# Altium integrated library SparkFun-Aesthetics.IntLib: 74 symbols
Pins are listed as number, name and electrical type; pins without a type are passive.

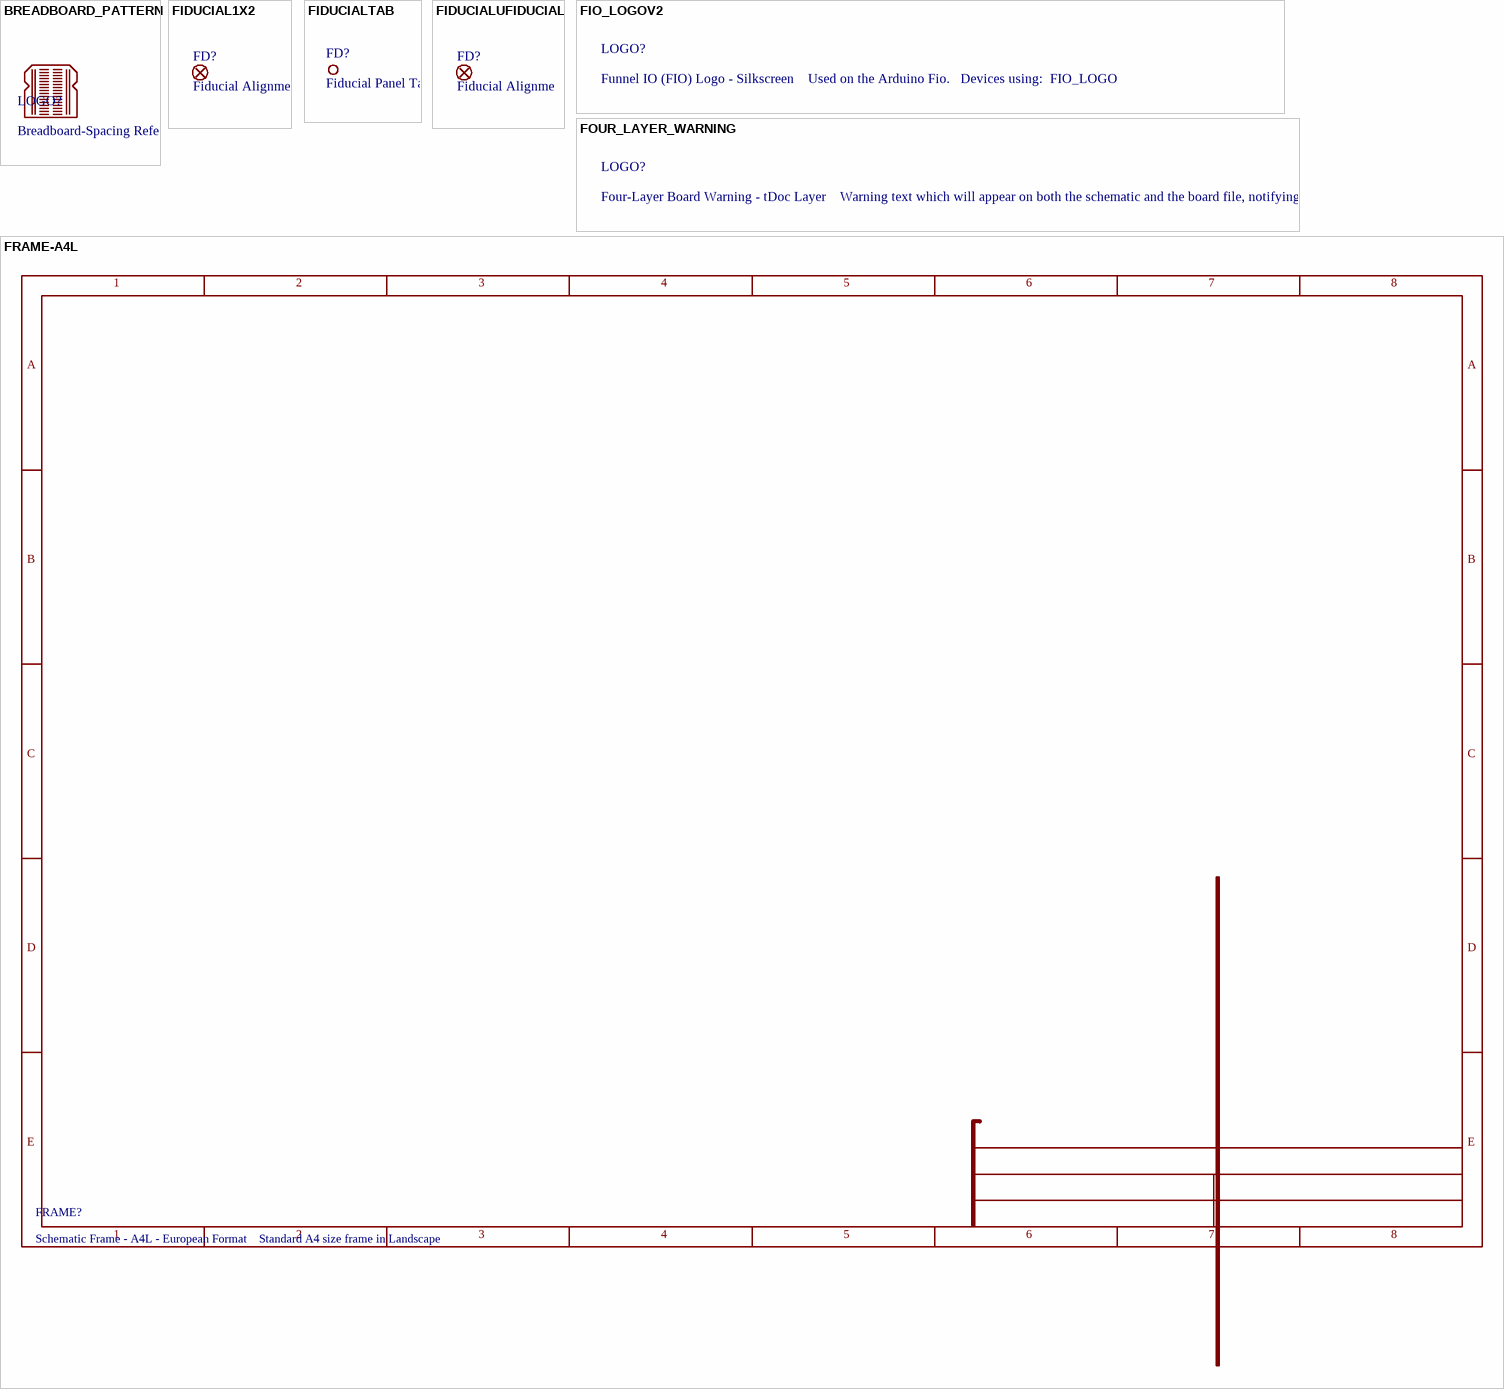
[diagram p0: symbols BREADBOARD_PATTERN to FRAME-A4L]

## BREADBOARD_PATTERN
designator LOGO?, comment Breadboard-Spacing Reference    tDoc reference markings that correspond to solderless breadboard row spacing. Includes power rails and void space between rows.
footprint BREADBOARD_SPACING

## FIDUCIAL1X2
designator FD?, comment Fiducial Alignment Points    Point-of-reference for pick-and-place machines and other optical instruments.
footprint FIDUCIAL-1X2

## FIDUCIALTAB
designator FD?, comment Fiducial Panel Tab    This is half of a tab, with fiducial reference mark, used to connect individual boards in a panel of PCBs.   Two of these half tabs, rotated in opposite directions, can be connected together to form a full tab, with two fiducial markings. Place along the edge of a panel of PCBs, this will allow for panels with boards not connected by v-scores, which allows for easier depanelization where there are overhanging components. It can also be used for designs too small to accomodate fiducial marks on individual boards.
footprint FIDUCIALTAB

## FIDUCIALUFIDUCIAL
designator FD?, comment Fiducial Alignment Points    Point-of-reference for pick-and-place machines and other optical instruments.
footprint FIDUCIAL-MICRO

## FIO_LOGOV2
designator LOGO?, comment Funnel IO (FIO) Logo - Silkscreen    Used on the Arduino Fio.   Devices using:  FIO_LOGO
footprint FIO_LOGO

## FOUR_LAYER_WARNING
designator LOGO?, comment Four-Layer Board Warning - tDoc Layer    Warning text which will appear on both the schematic and the board file, notifying viewers that the design is a four-layer PCB.
footprint FOUR_LAYER_WARNING

## FRAME-A4L
designator FRAME?, comment Schematic Frame - A4L - European Format    Standard A4 size frame in Landscape
text: 1; 2; 3; 4; 5; 6; 7; 8; A; B; C; D; E

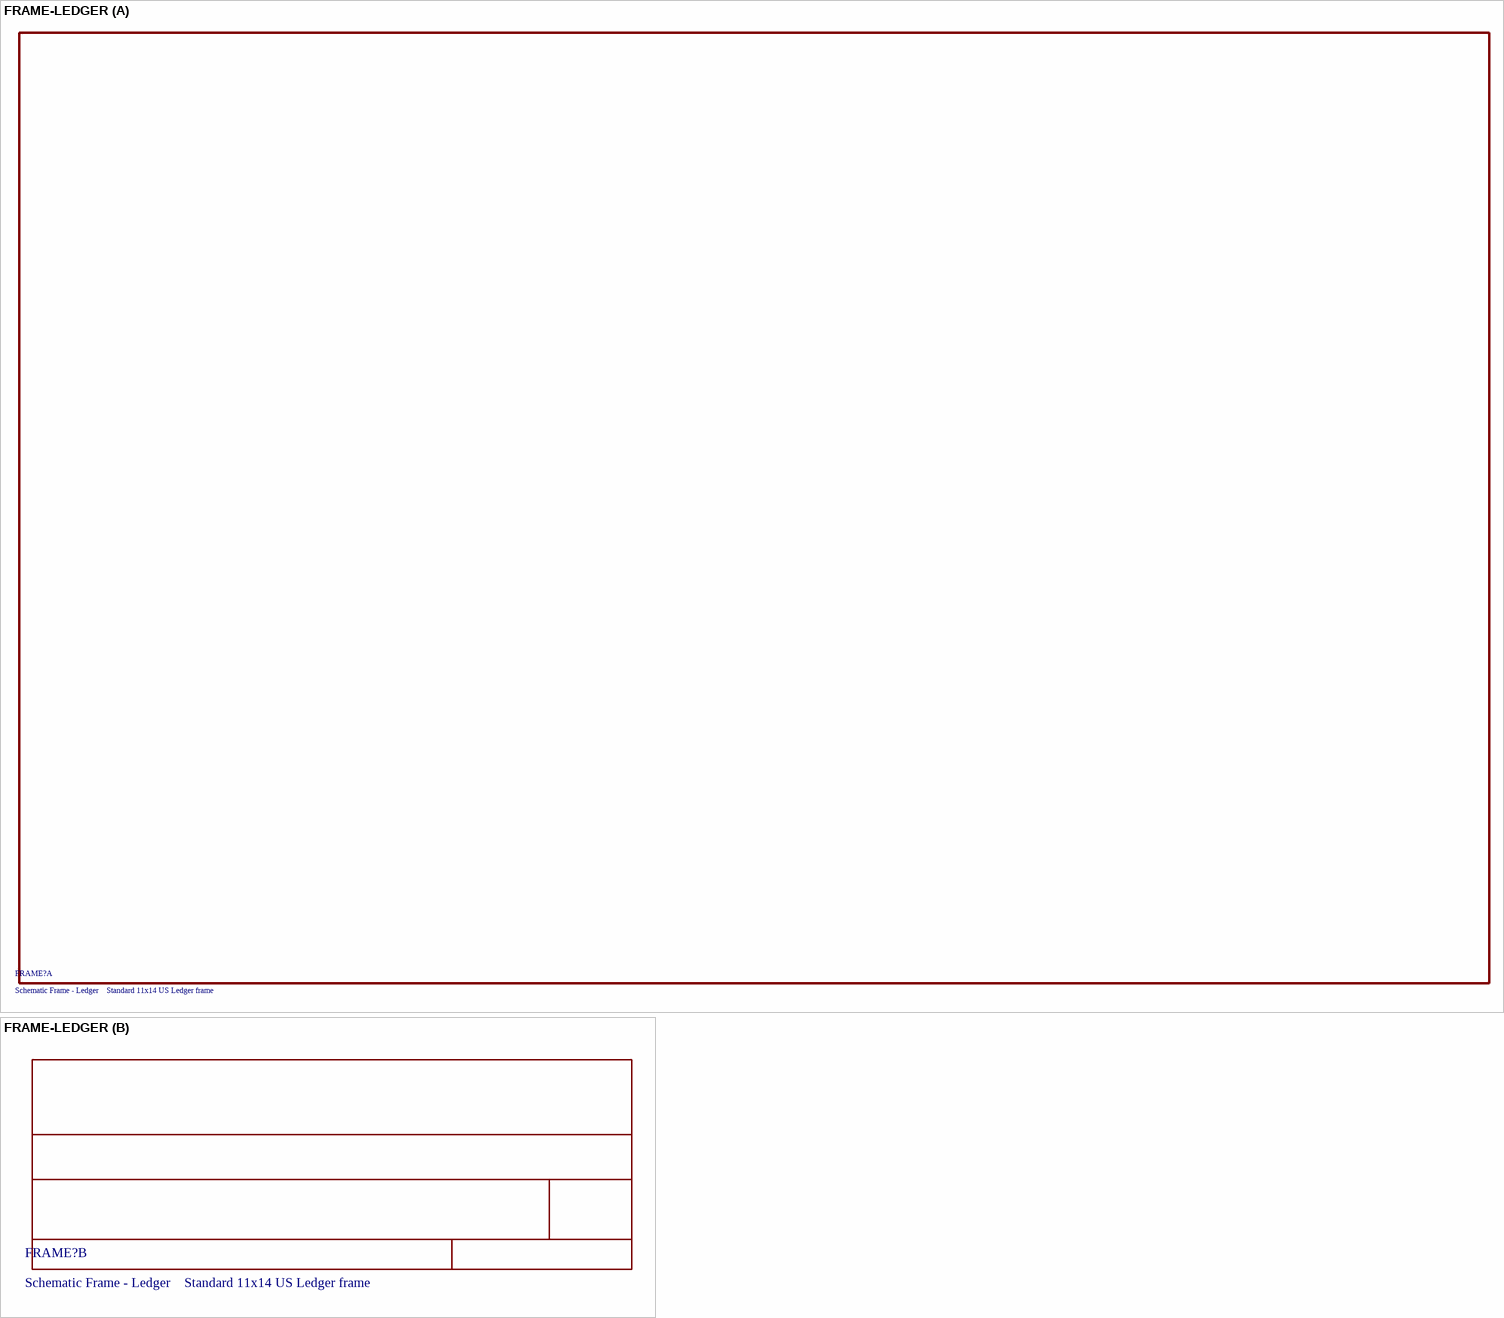
[diagram p1: symbol FRAME-LEDGER]

## FRAME-LEDGER
designator FRAME?, comment Schematic Frame - Ledger    Standard 11x14 US Ledger frame
footprint CREATIVE_COMMONS

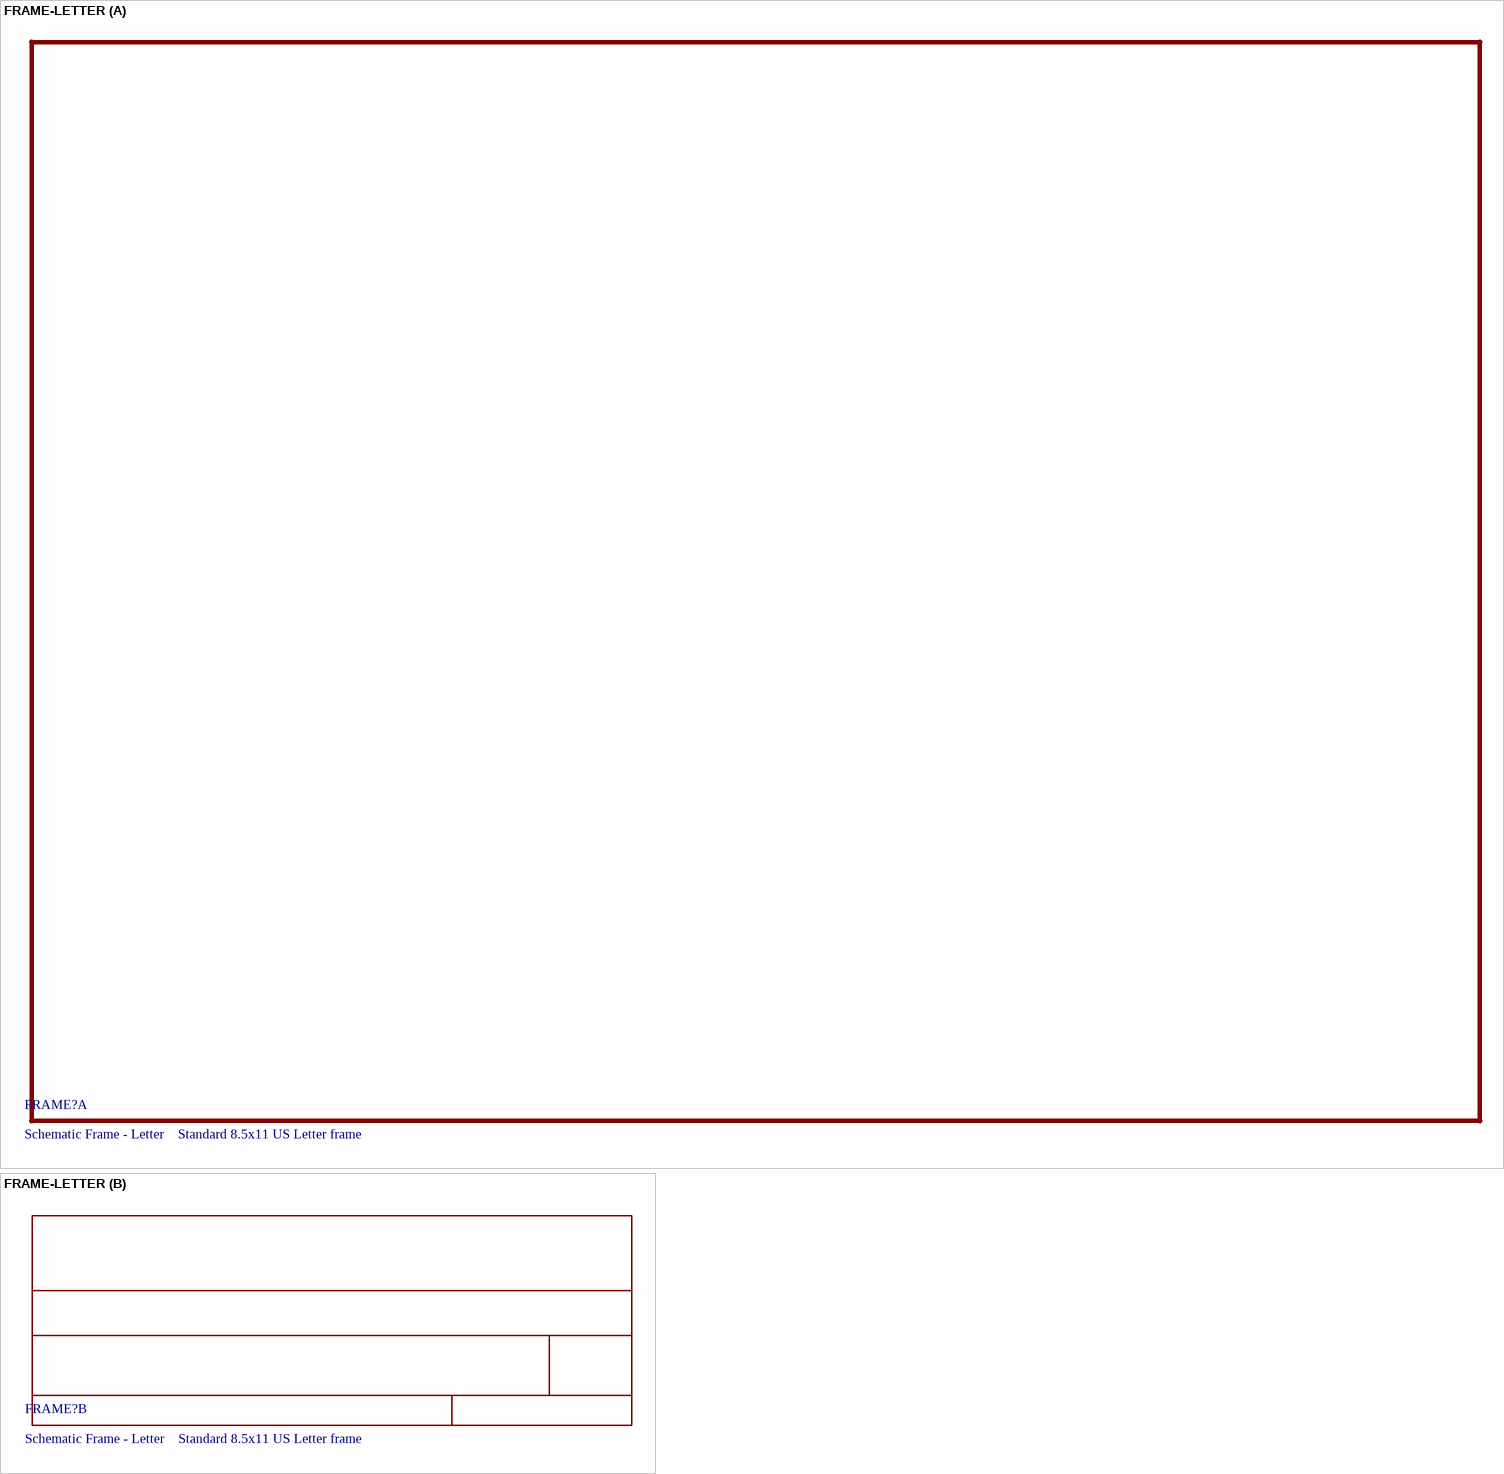
[diagram p2: symbol FRAME-LETTER]

## FRAME-LETTER
designator FRAME?, comment Schematic Frame - Letter    Standard 8.5x11 US Letter frame
footprint CREATIVE_COMMONS

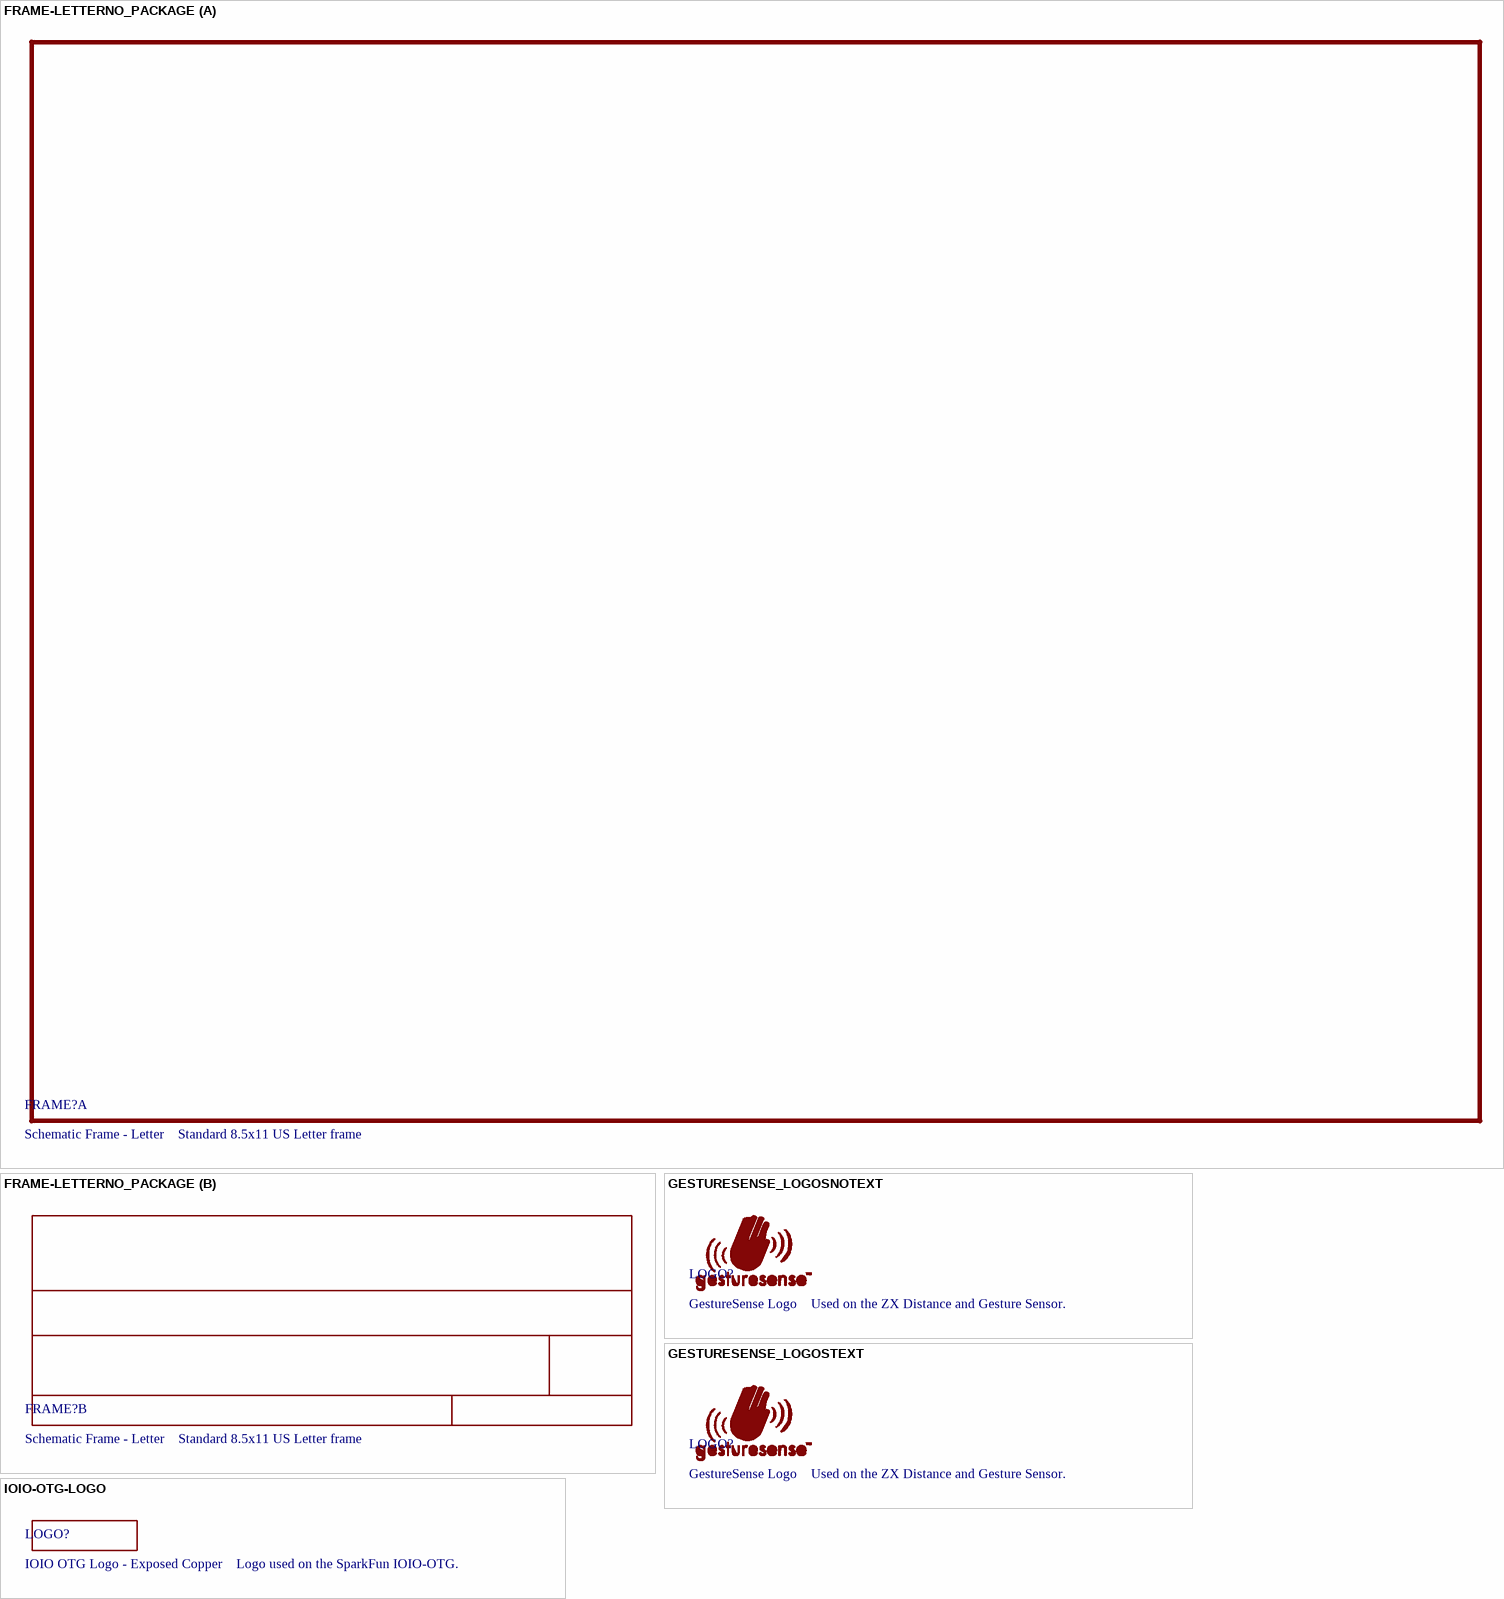
[diagram p3: symbols FRAME-LETTERNO_PACKAGE to IOIO-OTG-LOGO]

## FRAME-LETTERNO_PACKAGE
designator FRAME?, comment Schematic Frame - Letter    Standard 8.5x11 US Letter frame
DESIGNER: Nobody; VERSION: v01
footprint DUMMY

## GESTURESENSE_LOGOSNOTEXT
designator LOGO?, comment GestureSense Logo    Used on the ZX Distance and Gesture Sensor.
footprint GESTURESENSE_NOTEXT

## GESTURESENSE_LOGOSTEXT
designator LOGO?, comment GestureSense Logo    Used on the ZX Distance and Gesture Sensor.
footprint GESTURESENSE_TEXT

## IOIO-OTG-LOGO
designator LOGO?, comment IOIO OTG Logo - Exposed Copper    Logo used on the SparkFun IOIO-OTG.
footprint IOIO-OTG-COPPER-EXPOSED

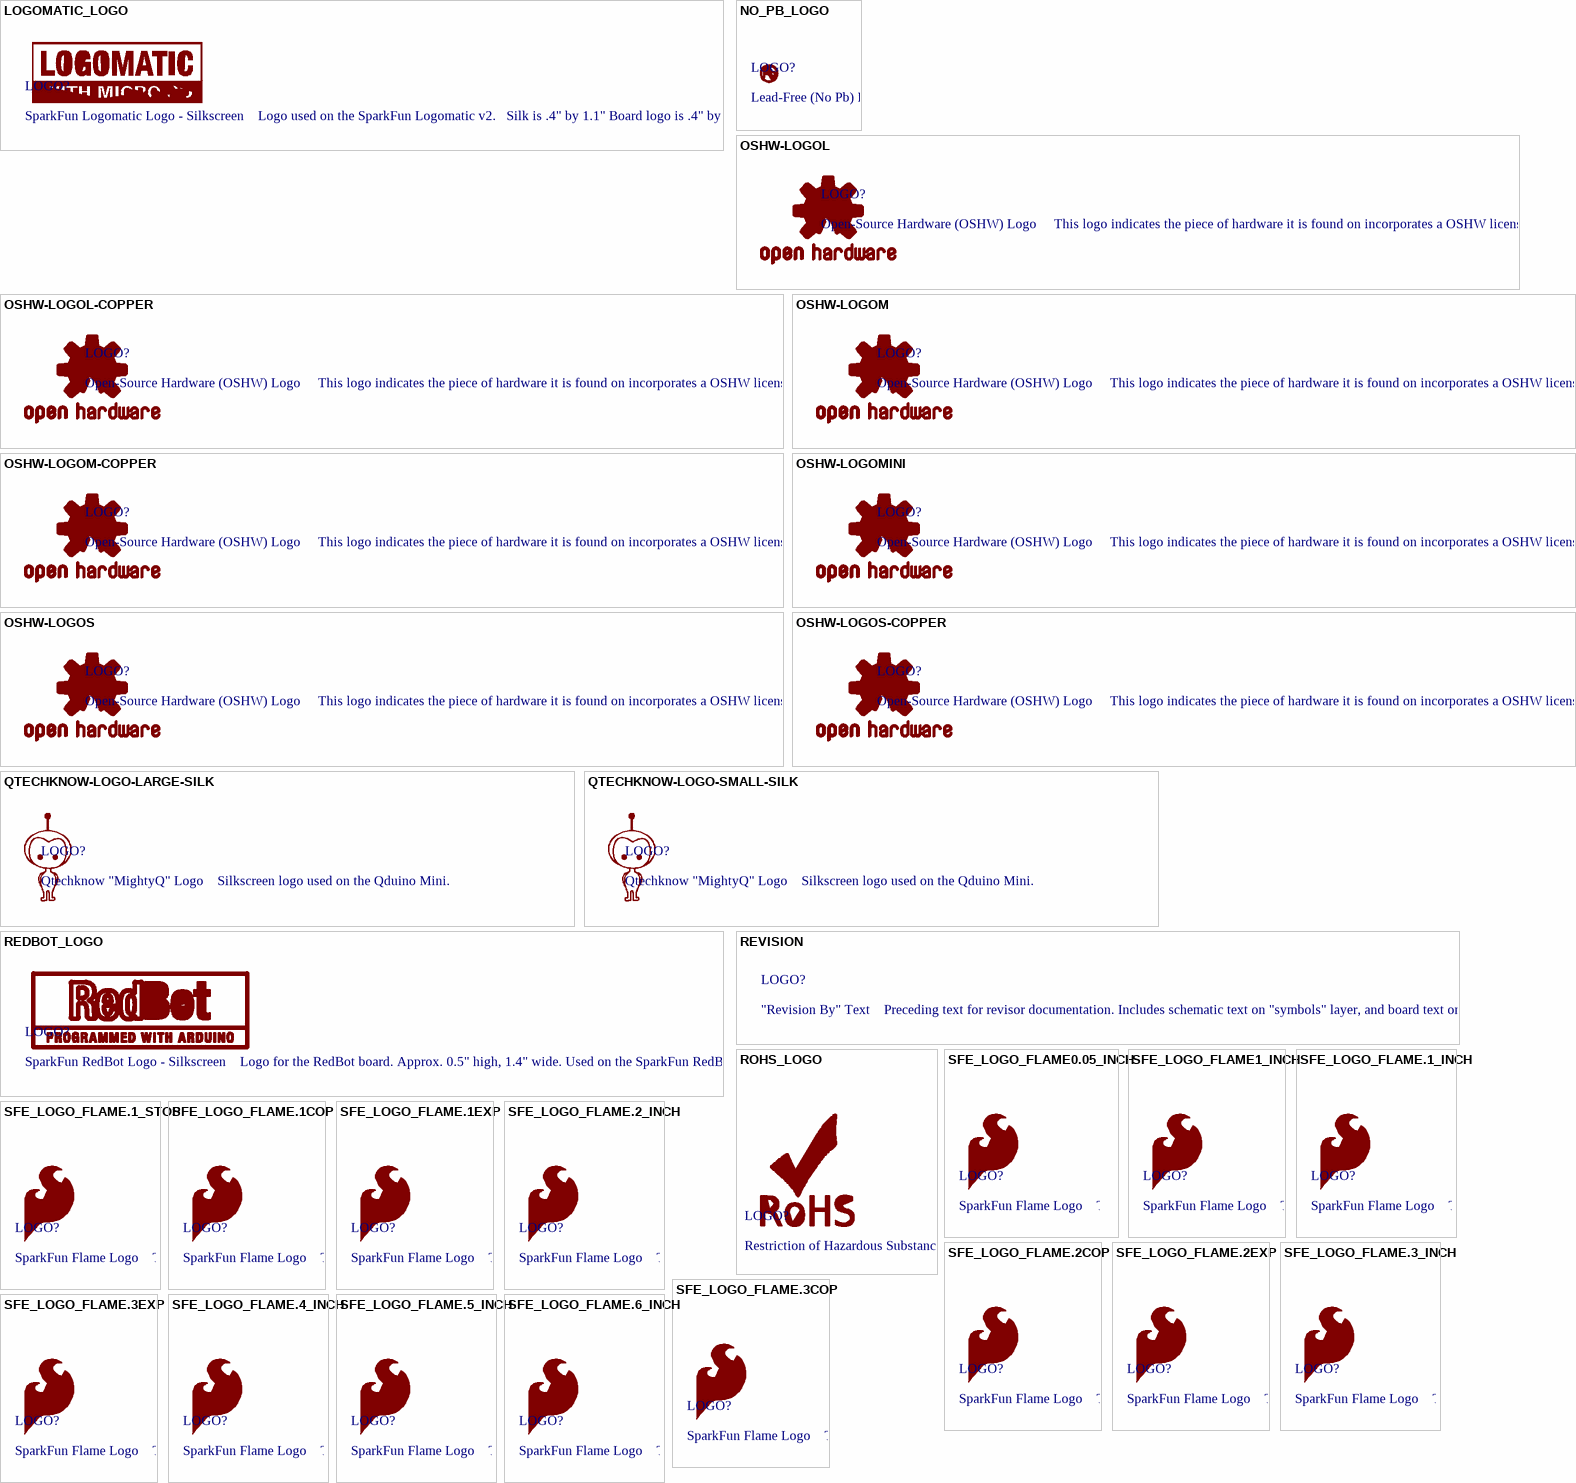
[diagram p4: symbols LOGOMATIC_LOGO to SFE_LOGO_FLAME.6_INCH]

## LOGOMATIC_LOGO
designator LOGO?, comment SparkFun Logomatic Logo - Silkscreen    Logo used on the SparkFun Logomatic v2.   Silk is .4" by 1.1" Board logo is .4" by 1.1"
footprint LOGOMATIC_LOGO

## NO_PB_LOGO
designator LOGO?, comment Lead-Free (No Pb) Logo    Logo for lead-safe certified hardware.
footprint NO_PB_LOGO_0.120

## OSHW-LOGOL
designator LOGO?, comment Open-Source Hardware (OSHW) Logo     This logo indicates the piece of hardware it is found on incorporates a OSHW license and/or adheres to the definition of open source hardware found here: http://freedomdefined.org/OSHW
footprint OSHW-LOGO-L

## OSHW-LOGOL-COPPER
designator LOGO?, comment Open-Source Hardware (OSHW) Logo     This logo indicates the piece of hardware it is found on incorporates a OSHW license and/or adheres to the definition of open source hardware found here: http://freedomdefined.org/OSHW
footprint OSHW-LOGO-L_COPPER

## OSHW-LOGOM
designator LOGO?, comment Open-Source Hardware (OSHW) Logo     This logo indicates the piece of hardware it is found on incorporates a OSHW license and/or adheres to the definition of open source hardware found here: http://freedomdefined.org/OSHW
footprint OSHW-LOGO-M

## OSHW-LOGOM-COPPER
designator LOGO?, comment Open-Source Hardware (OSHW) Logo     This logo indicates the piece of hardware it is found on incorporates a OSHW license and/or adheres to the definition of open source hardware found here: http://freedomdefined.org/OSHW
footprint OSHW-LOGO-M_COPPER

## OSHW-LOGOMINI
designator LOGO?, comment Open-Source Hardware (OSHW) Logo     This logo indicates the piece of hardware it is found on incorporates a OSHW license and/or adheres to the definition of open source hardware found here: http://freedomdefined.org/OSHW
footprint OSHW-LOGO-MINI

## OSHW-LOGOS
designator LOGO?, comment Open-Source Hardware (OSHW) Logo     This logo indicates the piece of hardware it is found on incorporates a OSHW license and/or adheres to the definition of open source hardware found here: http://freedomdefined.org/OSHW
footprint OSHW-LOGO-S

## OSHW-LOGOS-COPPER
designator LOGO?, comment Open-Source Hardware (OSHW) Logo     This logo indicates the piece of hardware it is found on incorporates a OSHW license and/or adheres to the definition of open source hardware found here: http://freedomdefined.org/OSHW
footprint OSHW-LOGO-S_COPPER

## QTECHKNOW-LOGO-LARGE-SILK
designator LOGO?, comment Qtechknow "MightyQ" Logo    Silkscreen logo used on the Qduino Mini.
footprint QTECHKNOW-LOGO-LARGE-SILK

## QTECHKNOW-LOGO-SMALL-SILK
designator LOGO?, comment Qtechknow "MightyQ" Logo    Silkscreen logo used on the Qduino Mini.
footprint QTECHKNOW-LOGO-SMALL-SILK

## REDBOT_LOGO
designator LOGO?, comment SparkFun RedBot Logo - Silkscreen    Logo for the RedBot board. Approx. 0.5" high, 1.4" wide. Used on the SparkFun RedBot Mainboard.
footprint REDBOT_LOGO

## REVISION
designator LOGO?, comment "Revision By" Text    Preceding text for revisor documentation. Includes schematic text on "symbols" layer, and board text on tDoc.
footprint REVISION

## ROHS_LOGO
designator LOGO?, comment Restriction of Hazardous Substances (RoHS) Logo    Logo for RoHS-certified hardware.
footprint ROHS_LOGO_0.18_IN

## SFE_LOGO_FLAME0.05_INCH
designator LOGO?, comment SparkFun Flame Logo    This is the SparkFun flame logo. The logo on the schematic will always be the same size; the package variant is the height of the flame. Default layer for the logo on the board is tSilk.
footprint SFE_LOGO_FLAME_.05

## SFE_LOGO_FLAME1_INCH
designator LOGO?, comment SparkFun Flame Logo    This is the SparkFun flame logo. The logo on the schematic will always be the same size; the package variant is the height of the flame. Default layer for the logo on the board is tSilk.
footprint SFE_LOGO_FLAME_.9

## SFE_LOGO_FLAME.1_INCH
designator LOGO?, comment SparkFun Flame Logo    This is the SparkFun flame logo. The logo on the schematic will always be the same size; the package variant is the height of the flame. Default layer for the logo on the board is tSilk.
footprint SFE_LOGO_FLAME_.1

## SFE_LOGO_FLAME.1_STOP
designator LOGO?, comment SparkFun Flame Logo    This is the SparkFun flame logo. The logo on the schematic will always be the same size; the package variant is the height of the flame. Default layer for the logo on the board is tSilk.
footprint SFE_LOGO_FLAME_STOP_.1

## SFE_LOGO_FLAME.1COP
designator LOGO?, comment SparkFun Flame Logo    This is the SparkFun flame logo. The logo on the schematic will always be the same size; the package variant is the height of the flame. Default layer for the logo on the board is tSilk.
footprint SFE_LOGO_FLAME_COPPER_.1

## SFE_LOGO_FLAME.1EXP
designator LOGO?, comment SparkFun Flame Logo    This is the SparkFun flame logo. The logo on the schematic will always be the same size; the package variant is the height of the flame. Default layer for the logo on the board is tSilk.
footprint SFE_LOGO_FLAME_COPPER_EXPOSED_.1

## SFE_LOGO_FLAME.2_INCH
designator LOGO?, comment SparkFun Flame Logo    This is the SparkFun flame logo. The logo on the schematic will always be the same size; the package variant is the height of the flame. Default layer for the logo on the board is tSilk.
footprint SFE_LOGO_FLAME_.2

## SFE_LOGO_FLAME.2COP
designator LOGO?, comment SparkFun Flame Logo    This is the SparkFun flame logo. The logo on the schematic will always be the same size; the package variant is the height of the flame. Default layer for the logo on the board is tSilk.
footprint SFE_LOGO_FLAME_COPPER_.2

## SFE_LOGO_FLAME.2EXP
designator LOGO?, comment SparkFun Flame Logo    This is the SparkFun flame logo. The logo on the schematic will always be the same size; the package variant is the height of the flame. Default layer for the logo on the board is tSilk.
footprint SFE_LOGO_FLAME_COPPER_EXPOSED_.2

## SFE_LOGO_FLAME.3_INCH
designator LOGO?, comment SparkFun Flame Logo    This is the SparkFun flame logo. The logo on the schematic will always be the same size; the package variant is the height of the flame. Default layer for the logo on the board is tSilk.
footprint SFE_LOGO_FLAME_.3

## SFE_LOGO_FLAME.3COP
designator LOGO?, comment SparkFun Flame Logo    This is the SparkFun flame logo. The logo on the schematic will always be the same size; the package variant is the height of the flame. Default layer for the logo on the board is tSilk.
footprint SFE_LOGO_FLAME_COPPER_.3

## SFE_LOGO_FLAME.3EXP
designator LOGO?, comment SparkFun Flame Logo    This is the SparkFun flame logo. The logo on the schematic will always be the same size; the package variant is the height of the flame. Default layer for the logo on the board is tSilk.
footprint SFE_LOGO_FLAME_COPPER_EXPOSED_.3

## SFE_LOGO_FLAME.4_INCH
designator LOGO?, comment SparkFun Flame Logo    This is the SparkFun flame logo. The logo on the schematic will always be the same size; the package variant is the height of the flame. Default layer for the logo on the board is tSilk.
footprint SFE_LOGO_FLAME_.4

## SFE_LOGO_FLAME.5_INCH
designator LOGO?, comment SparkFun Flame Logo    This is the SparkFun flame logo. The logo on the schematic will always be the same size; the package variant is the height of the flame. Default layer for the logo on the board is tSilk.
footprint SFE_LOGO_FLAME_.5

## SFE_LOGO_FLAME.6_INCH
designator LOGO?, comment SparkFun Flame Logo    This is the SparkFun flame logo. The logo on the schematic will always be the same size; the package variant is the height of the flame. Default layer for the logo on the board is tSilk.
footprint SFE_LOGO_FLAME_.6

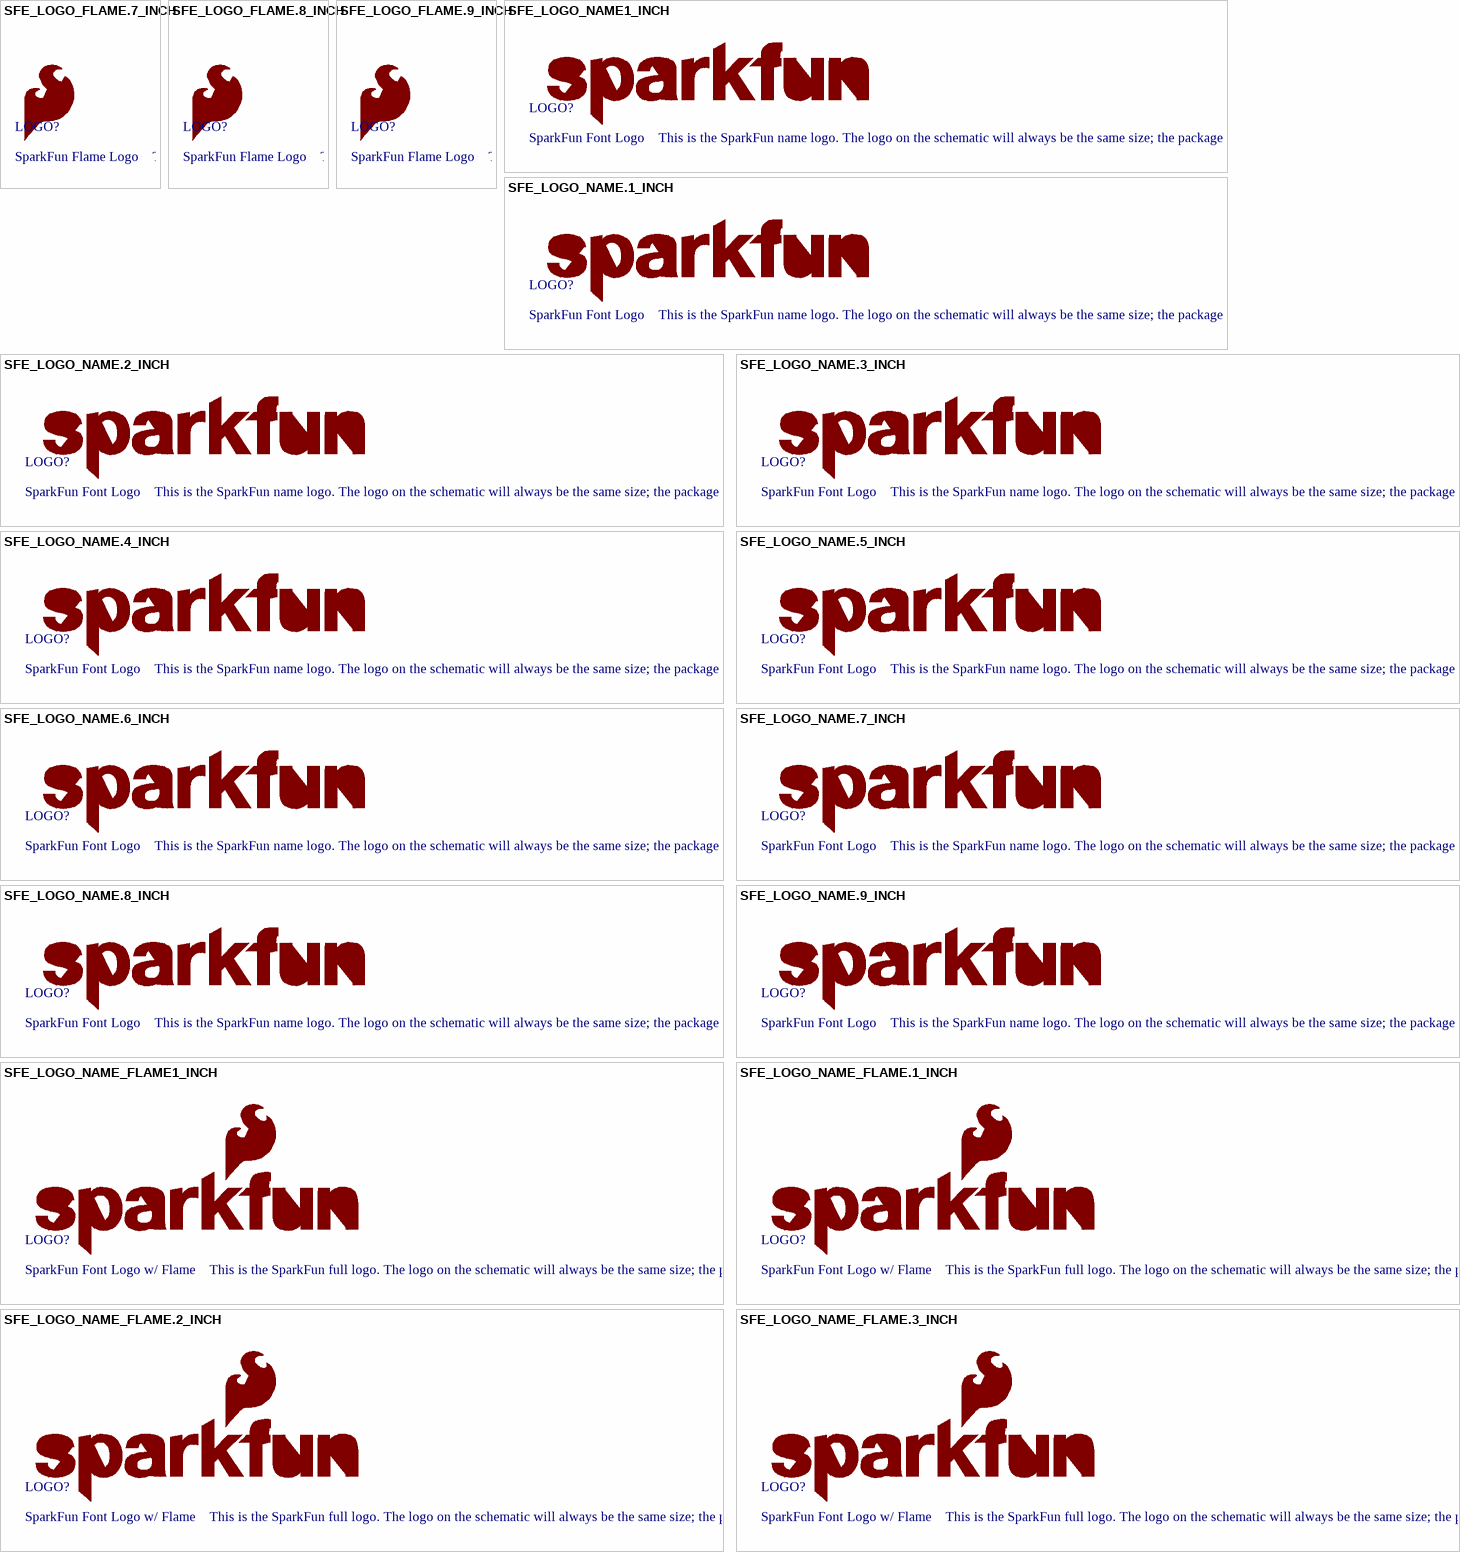
[diagram p5: symbols SFE_LOGO_FLAME.7_INCH to SFE_LOGO_NAME_FLAME.3_INCH]

## SFE_LOGO_FLAME.7_INCH
designator LOGO?, comment SparkFun Flame Logo    This is the SparkFun flame logo. The logo on the schematic will always be the same size; the package variant is the height of the flame. Default layer for the logo on the board is tSilk.
footprint SFE_LOGO_FLAME_.7

## SFE_LOGO_FLAME.8_INCH
designator LOGO?, comment SparkFun Flame Logo    This is the SparkFun flame logo. The logo on the schematic will always be the same size; the package variant is the height of the flame. Default layer for the logo on the board is tSilk.
footprint SFE_LOGO_FLAME_.8

## SFE_LOGO_FLAME.9_INCH
designator LOGO?, comment SparkFun Flame Logo    This is the SparkFun flame logo. The logo on the schematic will always be the same size; the package variant is the height of the flame. Default layer for the logo on the board is tSilk.
footprint SFE_LOGO_FLAME_.9

## SFE_LOGO_NAME1_INCH
designator LOGO?, comment SparkFun Font Logo    This is the SparkFun name logo. The logo on the schematic will always be the same size; the package variant is the height of the flame part of the logo (or the height the flame would be, if it were drawn). Default layer for the logo on the board is tSilk.
footprint SFE_LOGO_NAME_1

## SFE_LOGO_NAME.1_INCH
designator LOGO?, comment SparkFun Font Logo    This is the SparkFun name logo. The logo on the schematic will always be the same size; the package variant is the height of the flame part of the logo (or the height the flame would be, if it were drawn). Default layer for the logo on the board is tSilk.
footprint SFE_LOGO_NAME_.1

## SFE_LOGO_NAME.2_INCH
designator LOGO?, comment SparkFun Font Logo    This is the SparkFun name logo. The logo on the schematic will always be the same size; the package variant is the height of the flame part of the logo (or the height the flame would be, if it were drawn). Default layer for the logo on the board is tSilk.
footprint SFE_LOGO_NAME_.2

## SFE_LOGO_NAME.3_INCH
designator LOGO?, comment SparkFun Font Logo    This is the SparkFun name logo. The logo on the schematic will always be the same size; the package variant is the height of the flame part of the logo (or the height the flame would be, if it were drawn). Default layer for the logo on the board is tSilk.
footprint SFE_LOGO_NAME_.3

## SFE_LOGO_NAME.4_INCH
designator LOGO?, comment SparkFun Font Logo    This is the SparkFun name logo. The logo on the schematic will always be the same size; the package variant is the height of the flame part of the logo (or the height the flame would be, if it were drawn). Default layer for the logo on the board is tSilk.
footprint SFE_LOGO_NAME_.4

## SFE_LOGO_NAME.5_INCH
designator LOGO?, comment SparkFun Font Logo    This is the SparkFun name logo. The logo on the schematic will always be the same size; the package variant is the height of the flame part of the logo (or the height the flame would be, if it were drawn). Default layer for the logo on the board is tSilk.
footprint SFE_LOGO_NAME_.5

## SFE_LOGO_NAME.6_INCH
designator LOGO?, comment SparkFun Font Logo    This is the SparkFun name logo. The logo on the schematic will always be the same size; the package variant is the height of the flame part of the logo (or the height the flame would be, if it were drawn). Default layer for the logo on the board is tSilk.
footprint SFE_LOGO_NAME_.6

## SFE_LOGO_NAME.7_INCH
designator LOGO?, comment SparkFun Font Logo    This is the SparkFun name logo. The logo on the schematic will always be the same size; the package variant is the height of the flame part of the logo (or the height the flame would be, if it were drawn). Default layer for the logo on the board is tSilk.
footprint SFE_LOGO_NAME_.7

## SFE_LOGO_NAME.8_INCH
designator LOGO?, comment SparkFun Font Logo    This is the SparkFun name logo. The logo on the schematic will always be the same size; the package variant is the height of the flame part of the logo (or the height the flame would be, if it were drawn). Default layer for the logo on the board is tSilk.
footprint SFE_LOGO_NAME_.8

## SFE_LOGO_NAME.9_INCH
designator LOGO?, comment SparkFun Font Logo    This is the SparkFun name logo. The logo on the schematic will always be the same size; the package variant is the height of the flame part of the logo (or the height the flame would be, if it were drawn). Default layer for the logo on the board is tSilk.
footprint SFE_LOGO_NAME_.9

## SFE_LOGO_NAME_FLAME1_INCH
designator LOGO?, comment SparkFun Font Logo w/ Flame    This is the SparkFun full logo. The logo on the schematic will always be the same size; the package variant is the height of the flame part of the logo. Default layer for the logo on the board is tSilk.
footprint SFE_LOGO_NAME_FLAME_1

## SFE_LOGO_NAME_FLAME.1_INCH
designator LOGO?, comment SparkFun Font Logo w/ Flame    This is the SparkFun full logo. The logo on the schematic will always be the same size; the package variant is the height of the flame part of the logo. Default layer for the logo on the board is tSilk.
footprint SFE_LOGO_NAME_FLAME_.1

## SFE_LOGO_NAME_FLAME.2_INCH
designator LOGO?, comment SparkFun Font Logo w/ Flame    This is the SparkFun full logo. The logo on the schematic will always be the same size; the package variant is the height of the flame part of the logo. Default layer for the logo on the board is tSilk.
footprint SFE_LOGO_NAME_FLAME_.2

## SFE_LOGO_NAME_FLAME.3_INCH
designator LOGO?, comment SparkFun Font Logo w/ Flame    This is the SparkFun full logo. The logo on the schematic will always be the same size; the package variant is the height of the flame part of the logo. Default layer for the logo on the board is tSilk.
footprint SFE_LOGO_NAME_FLAME_.3

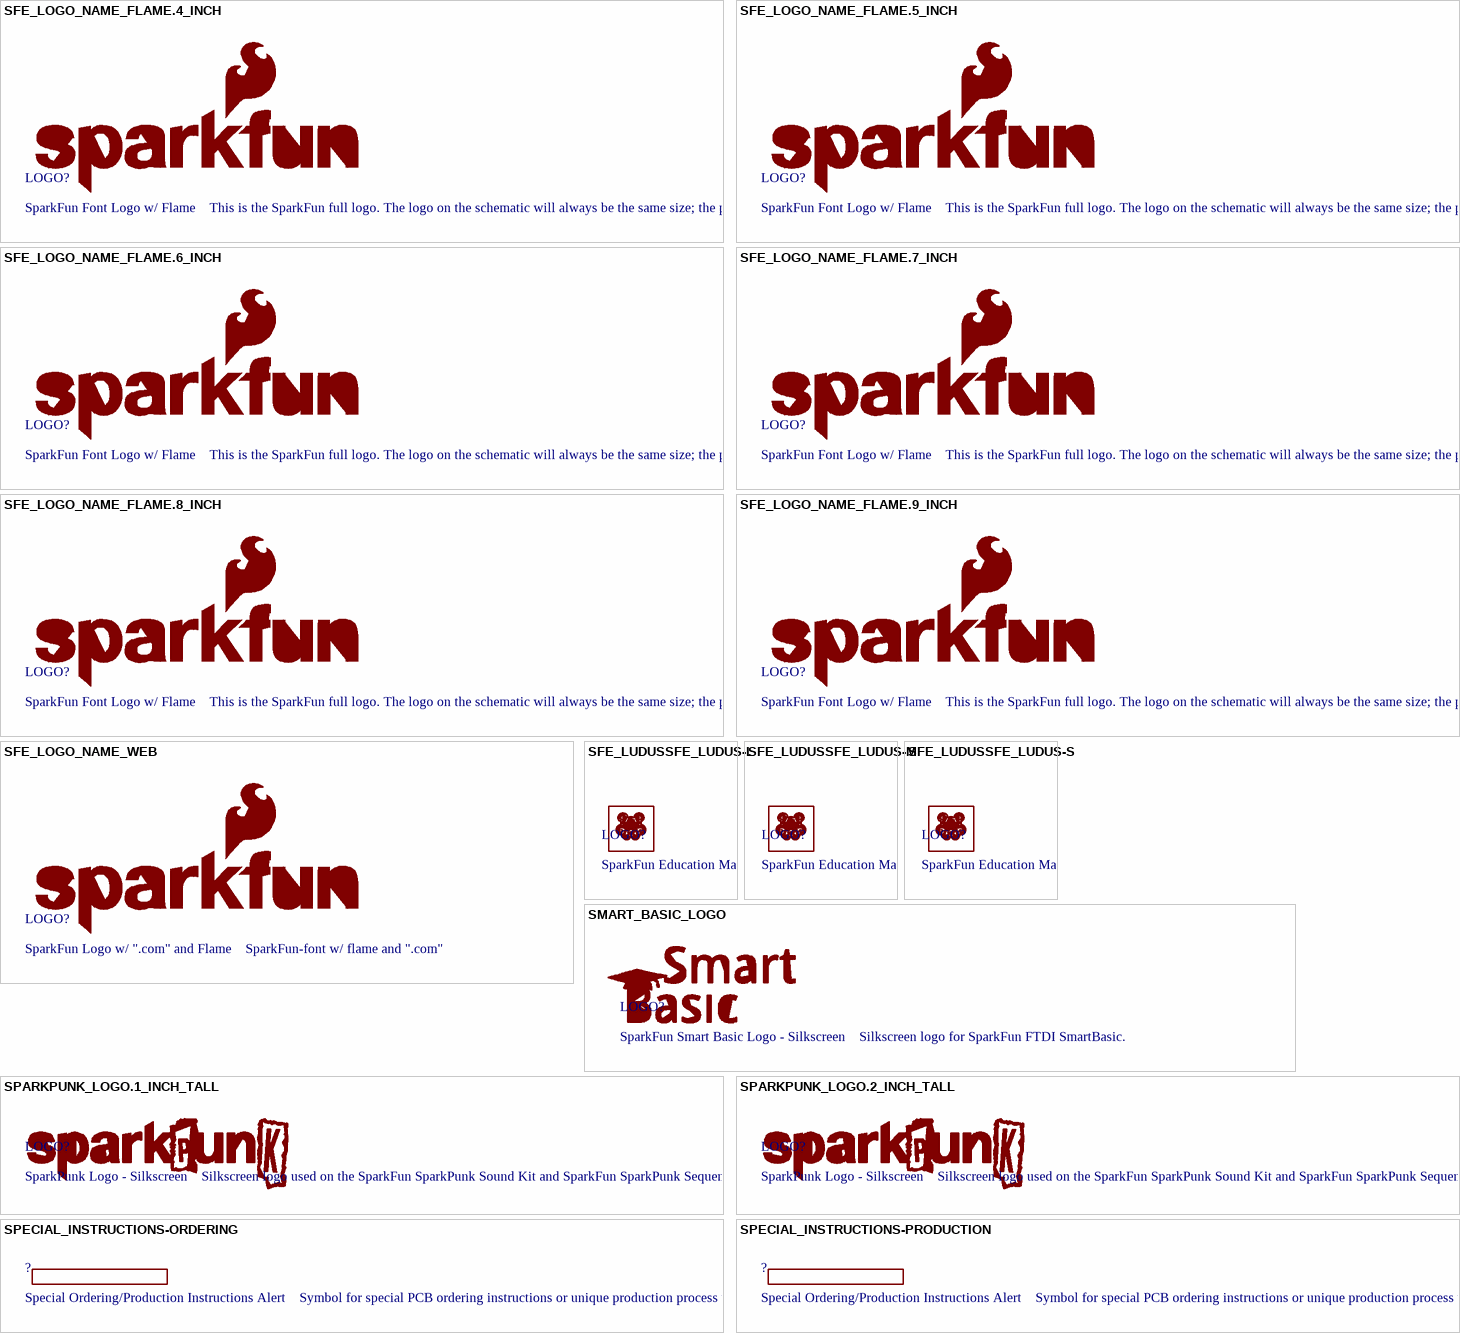
[diagram p6: symbols SFE_LOGO_NAME_FLAME.4_INCH to SPECIAL_INSTRUCTIONS-PRODUCTION]

## SFE_LOGO_NAME_FLAME.4_INCH
designator LOGO?, comment SparkFun Font Logo w/ Flame    This is the SparkFun full logo. The logo on the schematic will always be the same size; the package variant is the height of the flame part of the logo. Default layer for the logo on the board is tSilk.
footprint SFE_LOGO_NAME_FLAME_.4

## SFE_LOGO_NAME_FLAME.5_INCH
designator LOGO?, comment SparkFun Font Logo w/ Flame    This is the SparkFun full logo. The logo on the schematic will always be the same size; the package variant is the height of the flame part of the logo. Default layer for the logo on the board is tSilk.
footprint SFE_LOGO_NAME_FLAME_.5

## SFE_LOGO_NAME_FLAME.6_INCH
designator LOGO?, comment SparkFun Font Logo w/ Flame    This is the SparkFun full logo. The logo on the schematic will always be the same size; the package variant is the height of the flame part of the logo. Default layer for the logo on the board is tSilk.
footprint SFE_LOGO_NAME_FLAME_.6

## SFE_LOGO_NAME_FLAME.7_INCH
designator LOGO?, comment SparkFun Font Logo w/ Flame    This is the SparkFun full logo. The logo on the schematic will always be the same size; the package variant is the height of the flame part of the logo. Default layer for the logo on the board is tSilk.
footprint SFE_LOGO_NAME_FLAME_.7

## SFE_LOGO_NAME_FLAME.8_INCH
designator LOGO?, comment SparkFun Font Logo w/ Flame    This is the SparkFun full logo. The logo on the schematic will always be the same size; the package variant is the height of the flame part of the logo. Default layer for the logo on the board is tSilk.
footprint SFE_LOGO_NAME_FLAME_.8

## SFE_LOGO_NAME_FLAME.9_INCH
designator LOGO?, comment SparkFun Font Logo w/ Flame    This is the SparkFun full logo. The logo on the schematic will always be the same size; the package variant is the height of the flame part of the logo. Default layer for the logo on the board is tSilk.
footprint SFE_LOGO_NAME_FLAME_.9

## SFE_LOGO_NAME_WEB
designator LOGO?, comment SparkFun Logo w/ ".com" and Flame    SparkFun-font w/ flame and ".com"
footprint SFE_LOGO_NAME_WEB

## SFE_LUDUSSFE_LUDUS-L
designator LOGO?, comment SparkFun Education Mascot - Ludus! - Silkscreen    Ludus logo for SparkFun Education products.
footprint SFE_LUDUS-L

## SFE_LUDUSSFE_LUDUS-M
designator LOGO?, comment SparkFun Education Mascot - Ludus! - Silkscreen    Ludus logo for SparkFun Education products.
footprint SFE_LUDUS-M

## SFE_LUDUSSFE_LUDUS-S
designator LOGO?, comment SparkFun Education Mascot - Ludus! - Silkscreen    Ludus logo for SparkFun Education products.
footprint SFE_LUDUS-S

## SMART_BASIC_LOGO
designator LOGO?, comment SparkFun Smart Basic Logo - Silkscreen    Silkscreen logo for SparkFun FTDI SmartBasic.
footprint SMART_BASIC_LOGO

## SPARKPUNK_LOGO.1_INCH_TALL
designator LOGO?, comment SparkPunk Logo - Silkscreen    Silkscreen logo used on the SparkFun SparkPunk Sound Kit and SparkFun SparkPunk Sequencer Kit.
footprint SPARKPUNK_LOGO_.1

## SPARKPUNK_LOGO.2_INCH_TALL
designator LOGO?, comment SparkPunk Logo - Silkscreen    Silkscreen logo used on the SparkFun SparkPunk Sound Kit and SparkFun SparkPunk Sequencer Kit.
footprint SPARKPUNK_LOGO_.2

## SPECIAL_INSTRUCTIONS-ORDERING
designator ?, comment Special Ordering/Production Instructions Alert    Symbol for special PCB ordering instructions or unique production process warnings.      Ordering InstructionsProduction Instructions      Types of information that should be added to box: Copper weight  Soldermask color  Silk color  PCB thickness  Number of layers       PCB Standard: 1.6mm FR4  1 oz copper  immersion silver plating  red soldermask  white silkscreen    	   Types of information that should be added to box: Special wash requirements  Depaneling instructions  Humidification  Glue curing    	   Default text settings: 0.07 inch  9% ratio  50% line distance
footprint ORDERING_INSTRUCTIONS

## SPECIAL_INSTRUCTIONS-PRODUCTION
designator ?, comment Special Ordering/Production Instructions Alert    Symbol for special PCB ordering instructions or unique production process warnings.      Ordering InstructionsProduction Instructions      Types of information that should be added to box: Copper weight  Soldermask color  Silk color  PCB thickness  Number of layers       PCB Standard: 1.6mm FR4  1 oz copper  immersion silver plating  red soldermask  white silkscreen    	   Types of information that should be added to box: Special wash requirements  Depaneling instructions  Humidification  Glue curing    	   Default text settings: 0.07 inch  9% ratio  50% line distance
footprint PRODUCTION_INSTRUCTIONS